# Altium schematic symbol library Connector1x4.Schlib: 1 symbol
Pins are listed as number, name and electrical type; pins without a type are passive.

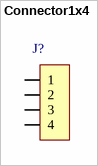
[diagram p0: symbol Connector1x4]

## Connector1x4
designator J?  (value not drawn)
pins: 1, 2, 3, 4